# EAGLE library part HXR026ST (library con-thomas-betts)
THOMAS&BETTS
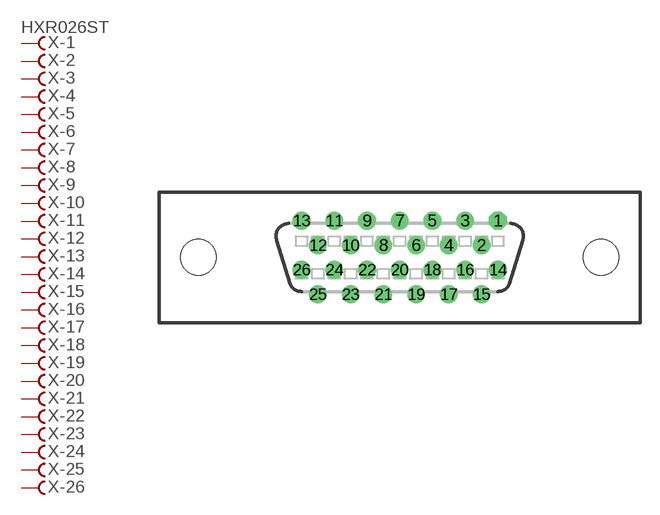
[diagram p21: symbol with the pads of HXR026ST; footprint HXR026ST]

Designator prefix X; gates -1=FV -2=F -3=F -4=F -5=F -6=F -7=F -8=F -9=F -10=F -11=F -12=F -13=F -14=F -15=F -16=F -17=F -18=F -19=F -20=F -21=F -22=F -23=F -24=F -25=F -26=F

## HXR026ST (OC_FARNELL: unknown; OC_NEWARK: unknown)  [HXR026ST]
1  -1:F  pas
2  -2:F  pas
3  -3:F  pas
4  -4:F  pas
5  -5:F  pas
6  -6:F  pas
7  -7:F  pas
8  -8:F  pas
9  -9:F  pas
10  -10:F  pas
11  -11:F  pas
12  -12:F  pas
13  -13:F  pas
14  -14:F  pas
15  -15:F  pas
16  -16:F  pas
17  -17:F  pas
18  -18:F  pas
19  -19:F  pas
20  -20:F  pas
21  -21:F  pas
22  -22:F  pas
23  -23:F  pas
24  -24:F  pas
25  -25:F  pas
26  -26:F  pas

## Footprint HXR026ST (pad centres in mm)
THOMAS&BETTS HFR026ST29xx, HHR026ST29xx
drill 0.864 octagon: 1 7.62,2.857
drill 0.864: 2 6.35,0.953; 3 5.08,2.857; 4 3.81,0.953; 5 2.54,2.857; 6 1.27,0.953; 7 0,2.857; 8 -1.27,0.953; 9 -2.54,2.857; 10 -3.81,0.953; 11 -5.08,2.857; 12 -6.35,0.953; 13 -7.62,2.857; 14 7.62,-0.953; 15 6.35,-2.857; 16 5.08,-0.953; 17 3.81,-2.857; 18 2.54,-0.953; 19 1.27,-2.857; 20 0,-0.953; 21 -1.27,-2.857; 22 -2.54,-0.953; 23 -3.81,-2.857; 24 -5.08,-0.953; 25 -6.35,-2.857; 26 -7.62,-0.953
hole 2.769 at 15.621,0.013
hole 2.769 at -15.621,0.013